# EAGLE library part STM32F469IIT6 (library circuit_tree)
IC
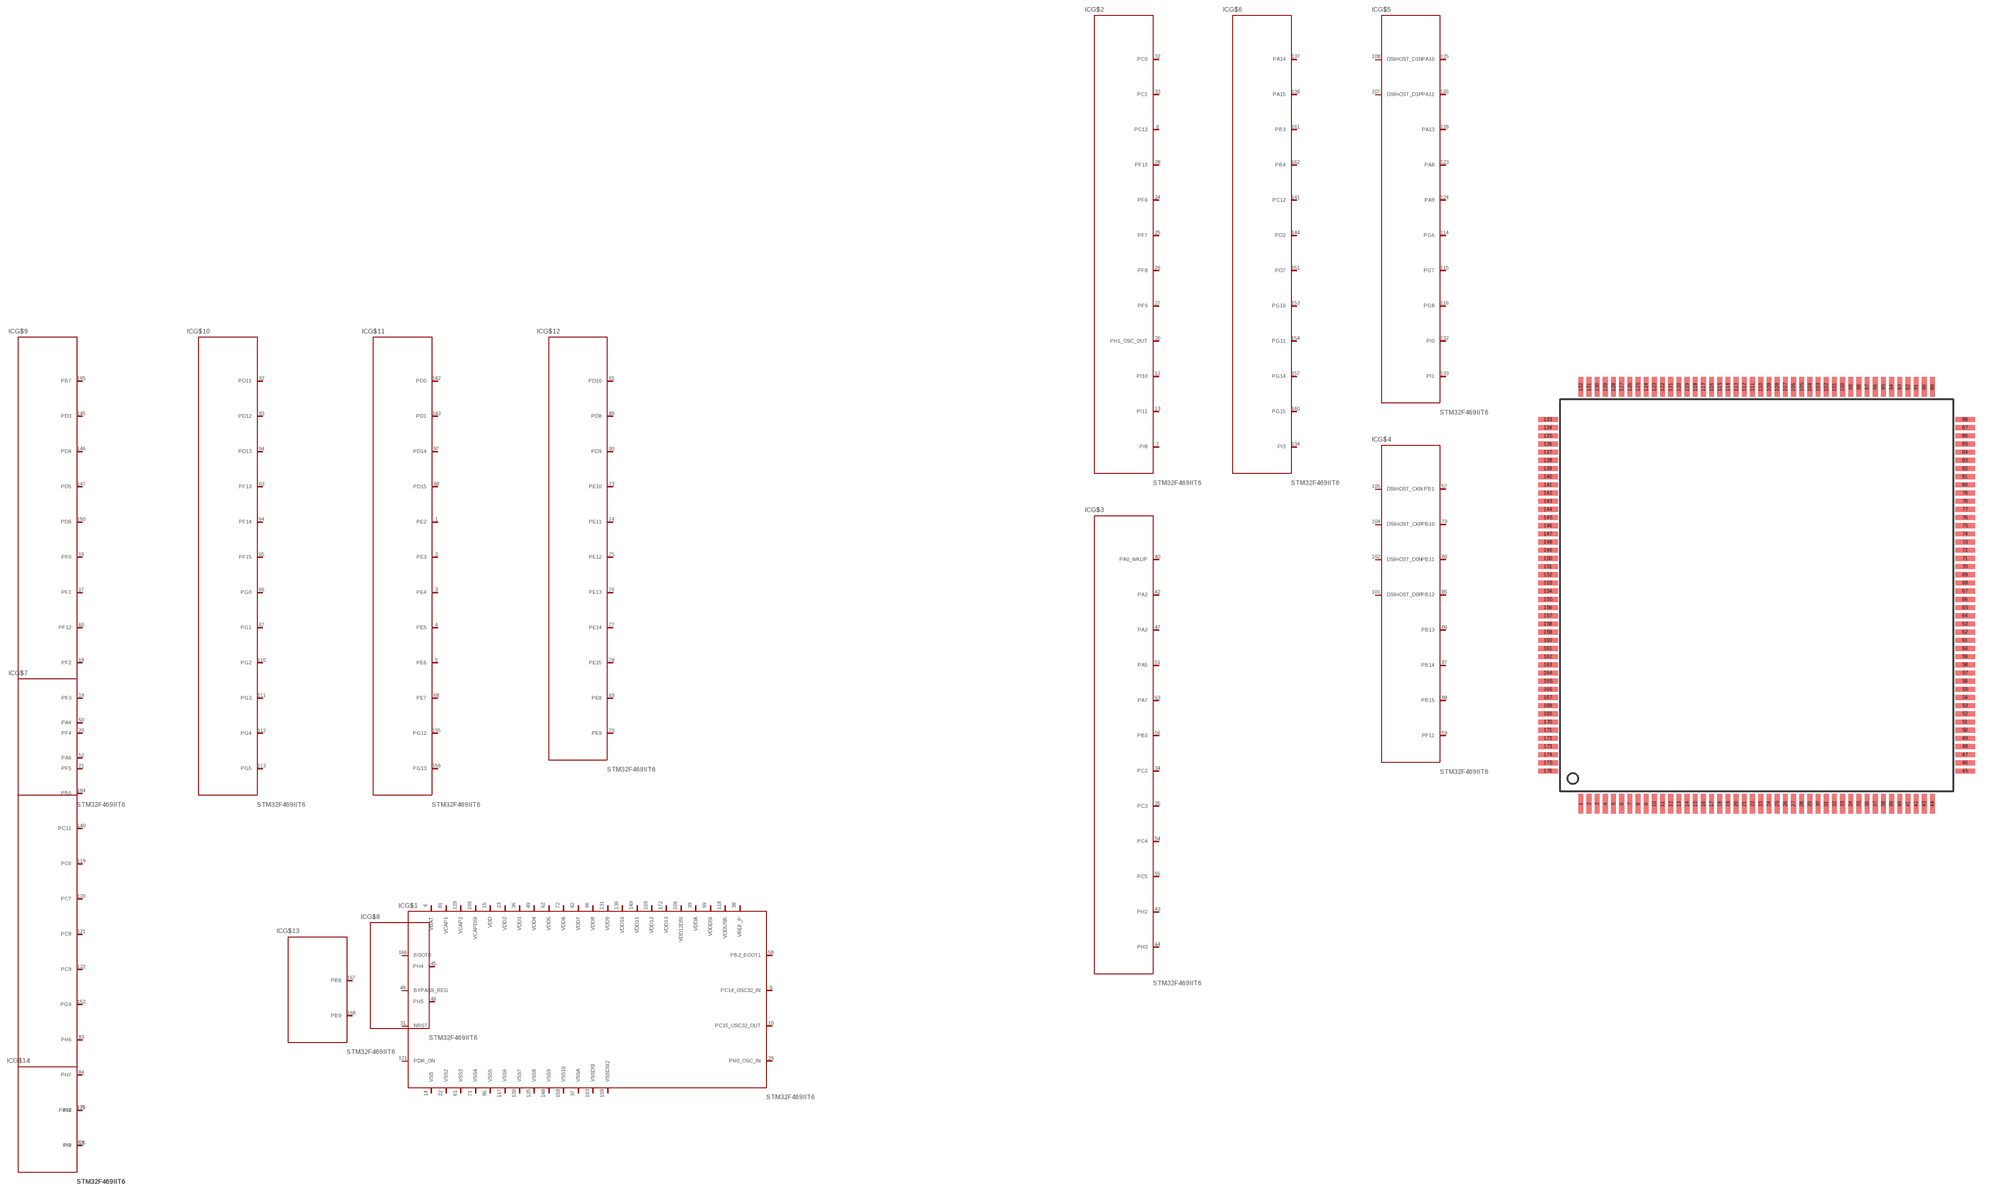
[diagram p12: symbol with the pads of LQFP176; footprint LQFP176]

Designator prefix IC; gates G$1=STM32F469IIT6 G$2=STM32F469IIT62 G$3=STM32F469IIT63 G$4=STM32F469IIT64 G$5=STM32F469IIT65 G$6=STM32F469IIT66 G$7=STM32F469IIT67 G$8=STM32F469IIT68 G$9=STM32F469IIT69 G$10=STM32F469IIT610 G$11=STM32F469IIT611 G$12=STM32F469IIT612 G$13=STM32F469IIT613 G$14=STM32F469IIT614

## STM32F469IIT6  [LQFP176]
1  G$11:PE2  pas
2  G$11:PE3  pas
3  G$11:PE4  pas
4  G$11:PE5  pas
5  G$11:PE6  pas
6  G$1:VBAT  pas
7  G$2:PI8  pas
8  G$2:PC13  pas
9  G$1:PC14_OSC32_IN  pas
10  G$1:PC15_OSC32_OUT  pas
11  G$14:PI9  pas
12  G$2:PI10  pas
13  G$2:PI11  pas
14  G$1:VSS  pas
15  G$1:VDD  pas
16  G$9:PF0  pas
17  G$9:PF1  pas
18  G$9:PF2  pas
19  G$9:PF3  pas
20  G$9:PF4  pas
21  G$9:PF5  pas
22  G$1:VSS2  pas
23  G$1:VDD2  pas
24  G$2:PF6  pas
25  G$2:PF7  pas
26  G$2:PF8  pas
27  G$2:PF9  pas
28  G$2:PF10  pas
29  G$1:PH0_OSC_IN  pas
30  G$2:PH1_OSC_OUT  pas
31  G$1:NRST  pas
32  G$2:PC0  pas
33  G$2:PC1  pas
34  G$3:PC2  pas
35  G$3:PC3  pas
36  G$1:VDD3  pas
37  G$1:VSSA  pas
38  G$1:VREF_P  pas
39  G$1:VDDA  pas
40  G$3:PA0_WKUP  pas
42  G$3:PA2  pas
43  G$3:PH2  pas
44  G$3:PH3  pas
45  G$8:PH4  pas
46  G$8:PH5  pas
47  G$3:PA3  pas
48  G$1:BYPASS_REG  pas
49  G$1:VDD4  pas
50  G$7:PA4  pas
51  G$3:PA5  pas
52  G$7:PA6  pas
53  G$3:PA7  pas
54  G$3:PC4  pas
55  G$3:PC5  pas
56  G$3:PB0  pas
57  G$4:PB1  pas
58  G$1:PB2_BOOT1  pas
59  G$4:PF11  pas
60  G$9:PF12  pas
61  G$1:VSS3  pas
62  G$1:VDD5  pas
63  G$10:PF13  pas
64  G$10:PF14  pas
65  G$10:PF15  pas
66  G$10:PG0  pas
67  G$10:PG1  pas
68  G$11:PE7  pas
69  G$12:PE8  pas
70  G$12:PE9  pas
71  G$1:VSS4  pas
72  G$1:VDD6  pas
73  G$12:PE10  pas
74  G$12:PE11  pas
75  G$12:PE12  pas
76  G$12:PE13  pas
77  G$12:PE14  pas
78  G$12:PE15  pas
79  G$4:PB10  pas
80  G$4:PB11  pas
81  G$1:VCAP1  pas
82  G$1:VDD7  pas
83  G$7:PH6  pas
84  G$7:PH7  pas
85  G$4:PB12  pas
86  G$4:PB13  pas
87  G$4:PB14  pas
88  G$4:PB15  pas
89  G$12:PD8  pas
90  G$12:PD9  pas
91  G$12:PD10  pas
92  G$10:PD11  pas
93  G$10:PD12  pas
94  G$10:PD13  pas
95  G$1:VSS5  pas
96  G$1:VDD8  pas
97  G$11:PD14  pas
98  G$11:PD15  pas
99  G$1:VDDDSI  pas
100  G$1:VCAPDSI  pas
101  G$4:DSIHOST_D0P  pas
102  G$4:DSIHOST_D0N  pas
103  G$1:VSSDSI  pas
104  G$4:DSIHOST_CKP  pas
105  G$4:DSIHOST_CKN  pas
106  G$1:VDD12DSI  pas
107  G$5:DSIHOST_D1P  pas
108  G$5:DSIHOST_D1N  pas
109  G$1:VSSDSI2  pas
110  G$10:PG2  pas
111  G$10:PG3  pas
112  G$10:PG4  pas
113  G$10:PG5  pas
114  G$5:PG6  pas
115  G$5:PG7  pas
116  G$5:PG8  pas
117  G$1:VSS6  pas
118  G$1:VDDUSB  pas
119  G$7:PC6  pas
120  G$7:PC7  pas
121  G$7:PC8  pas
122  G$7:PC9  pas
123  G$5:PA8  pas
124  G$5:PA9  pas
125  G$5:PA10  pas
126  G$5:PA11  pas
127  G$14:PA12  pas
128  G$5:PA13  pas
129  G$1:VCAP2  pas
130  G$1:VSS7  pas
131  G$1:VDD9  pas
132  G$5:PI0  pas
133  G$5:PI1  pas
134  G$6:PI3  pas
135  G$1:VSS8  pas
136  G$1:VDD10  pas
137  G$6:PA14  pas
138  G$6:PA15  pas
140  G$7:PC11  pas
141  G$6:PC12  pas
142  G$11:PD0  pas
143  G$11:PD1  pas
144  G$6:PD2  pas
145  G$9:PD3  pas
146  G$9:PD4  pas
147  G$9:PD5  pas
148  G$1:VSS9  pas
149  G$1:VDD11  pas
150  G$9:PD6  pas
151  G$6:PD7  pas
152  G$7:PG9  pas
153  G$6:PG10  pas
154  G$6:PG11  pas
155  G$11:PG12  pas
156  G$11:PG13  pas
157  G$6:PG14  pas
158  G$1:VSS10  pas
159  G$1:VDD12  pas
160  G$6:PG15  pas
161  G$6:PB3  pas
162  G$6:PB4  pas
164  G$7:PB6  pas
165  G$9:PB7  pas
166  G$1:BOOT0  pas
167  G$13:PB8  pas
168  G$13:PB9  pas
171  G$1:PDR_ON  pas
172  G$1:VDD13  pas
175  G$7:PI6  pas
176  G$7:PI7  pas

## Footprint LQFP176 (pad centres in mm)
LQFP176 24 x 24 mm, 176-pin low-profile quad flat package
smd 0.3 x 1.2: 1 -10.75,-12.75; 2 -10.25,-12.75; 3 -9.75,-12.75; 4 -9.25,-12.75; 5 -8.75,-12.75; 6 -8.25,-12.75; 7 -7.75,-12.75; 8 -7.25,-12.75; 9 -6.75,-12.75; 10 -6.25,-12.75; 11 -5.75,-12.75; 12 -5.25,-12.75; 13 -4.75,-12.75; 14 -4.25,-12.75; 15 -3.75,-12.75; 16 -3.25,-12.75; 17 -2.75,-12.75; 18 -2.25,-12.75; 19 -1.75,-12.75; 20 -1.25,-12.75; 21 -0.75,-12.75; 22 -0.25,-12.75; 23 0.25,-12.75; 24 0.75,-12.75; 25 1.25,-12.75; 26 1.75,-12.75; 27 2.25,-12.75; 28 2.75,-12.75; 29 3.25,-12.75; 30 3.75,-12.75; 31 4.25,-12.75; 32 4.75,-12.75; 33 5.25,-12.75; 34 5.75,-12.75; 35 6.25,-12.75; 36 6.75,-12.75; 37 7.25,-12.75; 38 7.75,-12.75; 39 8.25,-12.75; 40 8.75,-12.75; 41 9.25,-12.75; 42 9.75,-12.75; 43 10.25,-12.75; 44 10.75,-12.75; 89 10.75,12.75; 90 10.25,12.75; 91 9.75,12.75; 92 9.25,12.75; 93 8.75,12.75; 94 8.25,12.75; 95 7.75,12.75; 96 7.25,12.75; 97 6.75,12.75; 98 6.25,12.75; 99 5.75,12.75; 100 5.25,12.75; 101 4.75,12.75; 102 4.25,12.75; 103 3.75,12.75; 104 3.25,12.75; 105 2.75,12.75; 106 2.25,12.75; 107 1.75,12.75; 108 1.25,12.75; 109 0.75,12.75; 110 0.25,12.75; 111 -0.25,12.75; 112 -0.75,12.75; 113 -1.25,12.75; 114 -1.75,12.75; 115 -2.25,12.75; 116 -2.75,12.75; 117 -3.25,12.75; 118 -3.75,12.75; 119 -4.25,12.75; 120 -4.75,12.75; 121 -5.25,12.75; 122 -5.75,12.75; 123 -6.25,12.75; 124 -6.75,12.75; 125 -7.25,12.75; 126 -7.75,12.75; 127 -8.25,12.75; 128 -8.75,12.75; 129 -9.25,12.75; 130 -9.75,12.75; 131 -10.25,12.75; 132 -10.75,12.75
smd 1.2 x 0.3: 45 12.75,-10.75; 46 12.75,-10.25; 47 12.75,-9.75; 48 12.75,-9.25; 49 12.75,-8.75; 50 12.75,-8.25; 51 12.75,-7.75; 52 12.75,-7.25; 53 12.75,-6.75; 54 12.75,-6.25; 55 12.75,-5.75; 56 12.75,-5.25; 57 12.75,-4.75; 58 12.75,-4.25; 59 12.75,-3.75; 60 12.75,-3.25; 61 12.75,-2.75; 62 12.75,-2.25; 63 12.75,-1.75; 64 12.75,-1.25; 65 12.75,-0.75; 66 12.75,-0.25; 67 12.75,0.25; 68 12.75,0.75; 69 12.75,1.25; 70 12.75,1.75; 71 12.75,2.25; 72 12.75,2.75; 73 12.75,3.25; 74 12.75,3.75; 75 12.75,4.25; 76 12.75,4.75; 77 12.75,5.25; 78 12.75,5.75; 79 12.75,6.25; 80 12.75,6.75; 81 12.75,7.25; 82 12.75,7.75; 83 12.75,8.25; 84 12.75,8.75; 85 12.75,9.25; 86 12.75,9.75; 87 12.75,10.25; 88 12.75,10.75; 133 -12.75,10.75; 134 -12.75,10.25; 135 -12.75,9.75; 136 -12.75,9.25; 137 -12.75,8.75; 138 -12.75,8.25; 139 -12.75,7.75; 140 -12.75,7.25; 141 -12.75,6.75; 142 -12.75,6.25; 143 -12.75,5.75; 144 -12.75,5.25; 145 -12.75,4.75; 146 -12.75,4.25; 147 -12.75,3.75; 148 -12.75,3.25; 149 -12.75,2.75; 150 -12.75,2.25; 151 -12.75,1.75; 152 -12.75,1.25; 153 -12.75,0.75; 154 -12.75,0.25; 155 -12.75,-0.25; 156 -12.75,-0.75; 157 -12.75,-1.25; 158 -12.75,-1.75; 159 -12.75,-2.25; 160 -12.75,-2.75; 161 -12.75,-3.25; 162 -12.75,-3.75; 163 -12.75,-4.25; 164 -12.75,-4.75; 165 -12.75,-5.25; 166 -12.75,-5.75; 167 -12.75,-6.25; 168 -12.75,-6.75; 169 -12.75,-7.25; 170 -12.75,-7.75; 171 -12.75,-8.25; 172 -12.75,-8.75; 173 -12.75,-9.25; 174 -12.75,-9.75; 175 -12.75,-10.25; 176 -12.75,-10.75